# Altium schematic symbol library ECS-80-18-5PX-TR_V.SchLib: 1 symbol
Pins are listed as number, name and electrical type; pins without a type are passive.

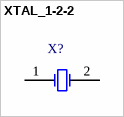
[diagram p0: symbol XTAL_1-2-2]

## XTAL_1-2-2
designator X?
pins: 1 X1, 2 X2